# EAGLE library part UNO32 (library ASL)
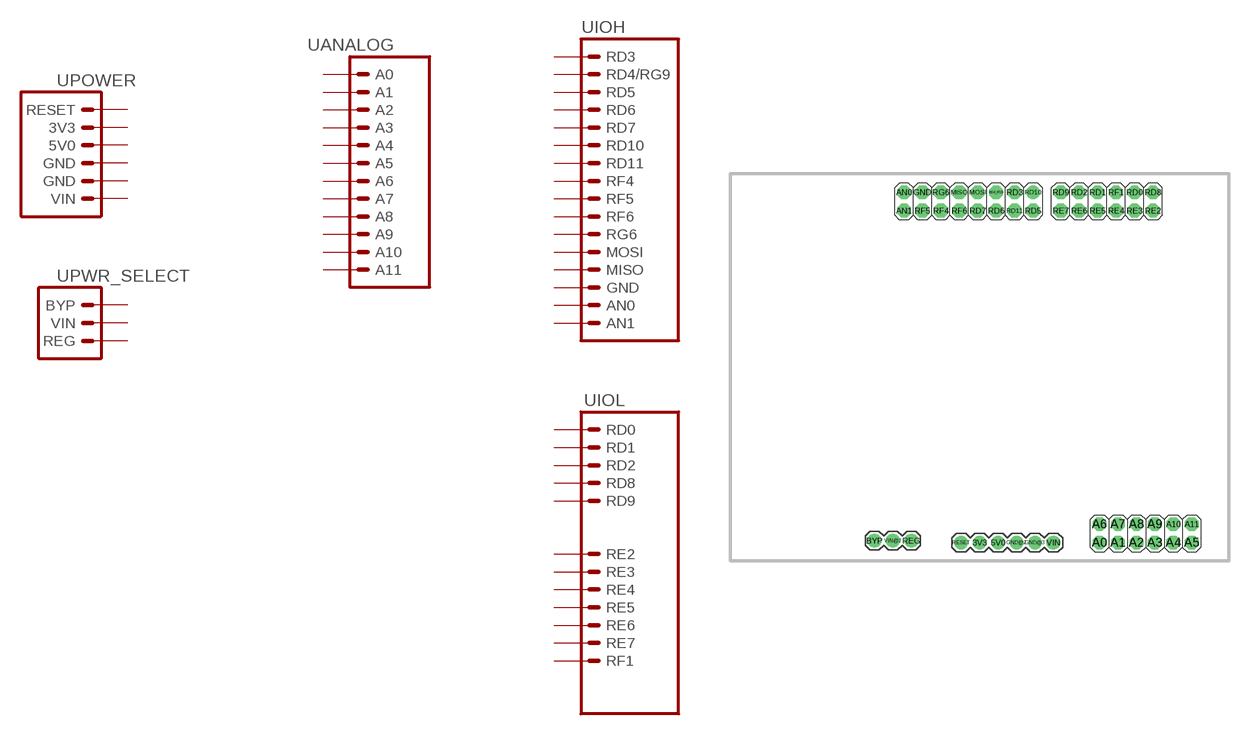
[diagram p13: symbol with the pads of UNO32; footprint UNO32]

Designator prefix U; gates IOH=UNO-IOH IOL=UNO-IOL ANALOG=UNO-ANALOG POWER=UNO-POWER PWR_SELECT=UNO-PWR_SELECT

## UNO32  [UNO32]
3V3  POWER:3V3  pas
5V0  POWER:5V0  pas
A0  ANALOG:A0  pas
A1  ANALOG:A1  pas
A2  ANALOG:A2  pas
A3  ANALOG:A3  pas
A4  ANALOG:A4  pas
A5  ANALOG:A5  pas
A6  ANALOG:A6  pas
A7  ANALOG:A7  pas
A8  ANALOG:A8  pas
A9  ANALOG:A9  pas
A10  ANALOG:A10  pas
A11  ANALOG:A11  pas
AN0  IOH:AN0  pas
AN1  IOH:AN1  pas
BYP  PWR_SELECT:BYP  pas
GND  IOH:GND  pas
GND@2  POWER:GND  pas
GND@3  POWER:GND  pas
MISO  IOH:MISO  pas
MOSI  IOH:MOSI  pas
RD0  IOL:RD0  pas
RD1  IOL:RD1  pas
RD2  IOL:RD2  pas
RD3  IOH:RD3  pas
RD4_RG9  IOH:RD4/RG9  pas
RD5  IOH:RD5  pas
RD6  IOH:RD6  pas
RD7  IOH:RD7  pas
RD8  IOL:RD8  pas
RD9  IOL:RD9  pas
RD10  IOH:RD10  pas
RD11  IOH:RD11  pas
RE2  IOL:RE2  pas
RE3  IOL:RE3  pas
RE4  IOL:RE4  pas
RE5  IOL:RE5  pas
RE6  IOL:RE6  pas
RE7  IOL:RE7  pas
REG  PWR_SELECT:REG  pas
RESET  POWER:RESET  pas
RF1  IOL:RF1  pas
RF4  IOH:RF4  pas
RF5  IOH:RF5  pas
RF6  IOH:RF6  pas
RG6  IOH:RG6  pas
VIN  POWER:VIN  pas
VIN@2  PWR_SELECT:VIN  pas

## Footprint UNO32 (pad centres in mm)
drill 1.016 pad 1.88: 3V3 34.29,2.54; 5V0 36.83,2.54; BYP 19.812,2.794; GND@2 39.37,2.54; GND@3 41.91,2.54; RD10 41.656,50.8; REG 24.892,2.794; RESET 31.75,2.54; VIN 44.45,2.54; VIN@2 22.352,2.794
drill 1.016 pad 1.88 octagon: A0 50.8,2.54; A1 53.34,2.54; A2 55.88,2.54; A3 58.42,2.54; A4 60.96,2.54; A5 63.5,2.54; A6 50.8,5.08; A7 53.34,5.08; A8 55.88,5.08; A9 58.42,5.08; A10 60.96,5.08; A11 63.5,5.08; AN0 23.876,50.8; AN1 23.876,48.26; GND 26.416,50.8; MISO 31.496,50.8; MOSI 34.036,50.8; RD0 55.626,50.8; RD1 50.546,50.8; RD2 48.006,50.8; RD3 39.116,50.8; RD4_RG9 36.576,50.8; RD5 41.656,48.26; RD6 36.576,48.26; RD7 34.036,48.26; RD8 58.166,50.8; RD9 45.466,50.8; RD11 39.116,48.26; RE2 58.166,48.26; RE3 55.626,48.26; RE4 53.086,48.26; RE5 50.546,48.26; RE6 48.006,48.26; RE7 45.466,48.26; RF1 53.086,50.8; RF4 28.956,48.26; RF5 26.416,48.26; RF6 31.496,48.26; RG6 28.956,50.8